# Altium integrated library TI Data Converters Analog to Digital Converter.IntLib: 2198 symbols (part 28 of 164)
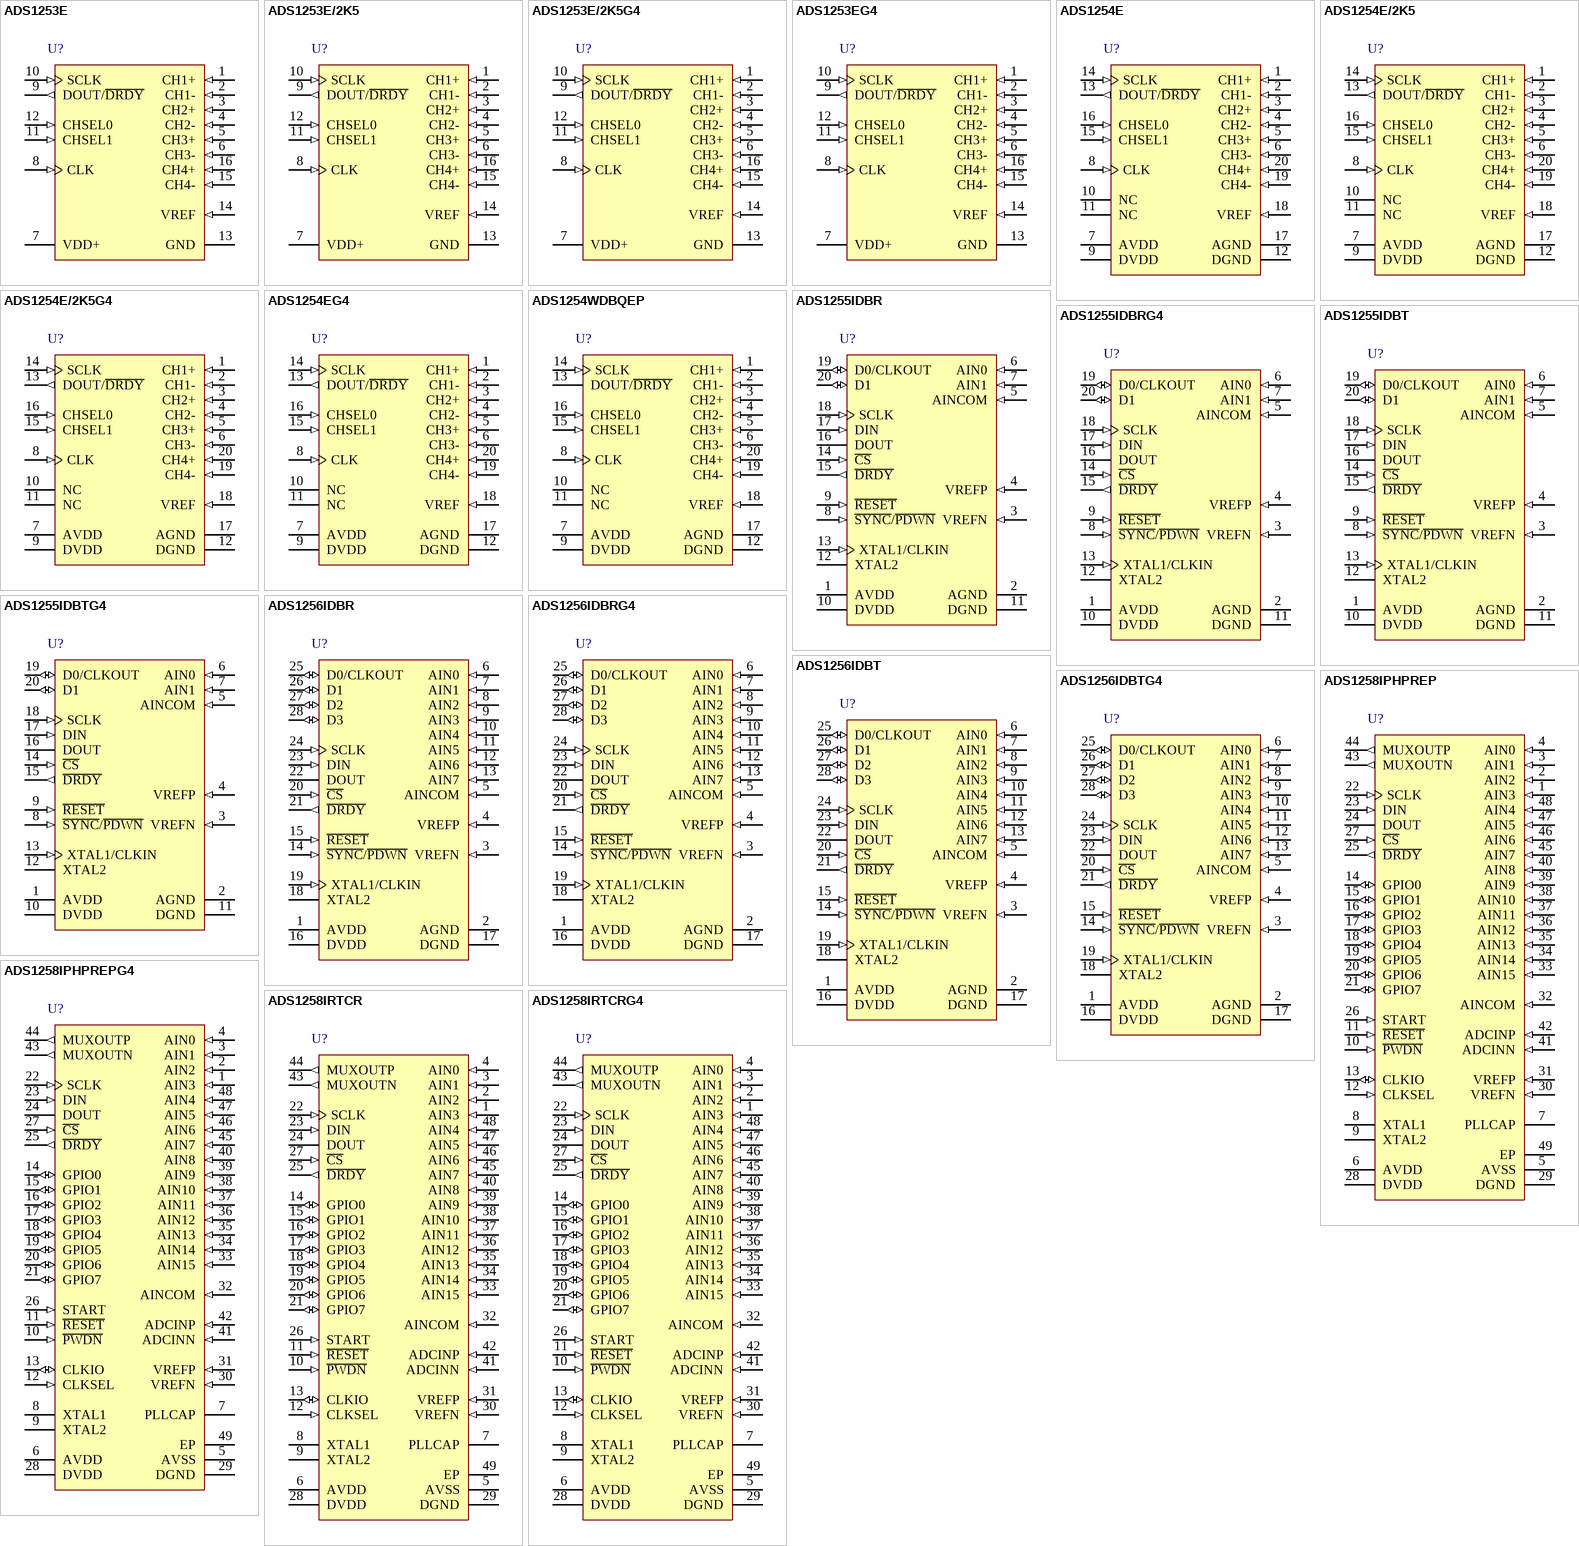
[diagram p153: symbols ADS1253E to ADS1258IRTCRG4]

## ADS1255IDBR
designator U?
24-Bit, 30 kSPS Very Low Noise Delta-Sigma ADC, -40 to 85 degC, 20-pin SOP (DB20), Green (RoHS & no Sb/Br); Manufacturer: Texas Instruments; PartNumber: ADS1255IDBR; # Input Channels: 2; Analog Voltage AV/DD(Max)(V): 5.25; Analog Voltage AV/DD(Min)(V): 4.75; Digital Supply(Max)(V): 3.6; Digital Supply(Min)(V): 1.8; Interface: Serial SPI; Resolution(Bits): 24; Sample Rate (max)(SPS): 30k; SubFamily: Precision ADC (<=10MSPS); DatasheetVersion: SBAS288J; PackageVersion: 4040065/E, 12/2001; PackageReference: DB20; PackageDescription: 20-Pin Plastic Small Outline, Body 5.3 x 7.2 mm, Pitch 0.65 mm; Supplier 1: Digi-Key; Supplier Part Number 1: 296-25894-2-ND; Architecture: Delta-Sigma; Eco-Plan: Green (RoHS & no Sb/Br); Mounting Technology: Surface Mount; Code_JEDEC: MO-150; ComponentLink1Description: Manufacturer URL; ComponentLink1URL: http://www.ti.com/; ComponentLink2Description: Datasheet; ComponentLink2URL: http://www.ti.com/general/docs/lit/getliterature.tsp?genericPartNumber=ADS1255&fileType=pdf; ComponentLink3Description: Package Specification; ComponentLink3URL: http://www.ti.com/lit/ml/msso002e/msso002e.pdf
footprint TI-DB20_N (SOP, 20-Leads, Body 7.2x5.3mm, Pitch 0.65mm, IPC Medium Density)
footprint TI-DB20_L (SOP, 20-Leads, Body 7.2x5.3mm, Pitch 0.65mm, IPC High Density)
footprint TI-DB20_M (SOP, 20-Leads, Body 7.2x5.3mm, Pitch 0.65mm, IPC Low Density)
pins: 1 AVDD (power) "Analog power supply", 2 AGND (power) "Analog ground", 3 VREFN (in) "Negative reference input", 4 VREFP (in) "Positive reference input", 5 AINCOM (in) "Analog input common", 6 AIN0 (in) "Analog input 0", 7 AIN1 (in) "Analog input 1", 8 ~{SYNC}/~{PDWN} (in), 9 ~{RESET} (in) "Reset input", 10 DVDD (power) "Digital power supply", 11 DGND (power) "Digital ground", 12 XTAL2 "Crystal oscillator connection", 13 XTAL1/CLKIN (in), 14 ~{CS} (in) "Chip select", 15 ~{DRDY} (out) "Data ready output", 16 DOUT (hiz) "Serial data output", 17 DIN (in) "Serial data input", 18 SCLK (in) "Serial clock input", 19 D0/CLKOUT (io), 20 D1 (io) "Digital I/O 1"

## ADS1255IDBRG4
designator U?
24-Bit, 30 kSPS Very Low Noise Delta-Sigma ADC, -40 to 85 degC, 20-pin SOP (DB20), Green (RoHS & no Sb/Br); Manufacturer: Texas Instruments; PartNumber: ADS1255IDBRG4; # Input Channels: 2; Analog Voltage AV/DD(Max)(V): 5.25; Analog Voltage AV/DD(Min)(V): 4.75; Digital Supply(Max)(V): 3.6; Digital Supply(Min)(V): 1.8; Interface: Serial SPI; Resolution(Bits): 24; Sample Rate (max)(SPS): 30k; SubFamily: Precision ADC (<=10MSPS); DatasheetVersion: SBAS288J; PackageVersion: 4040065/E, 12/2001; PackageReference: DB20; PackageDescription: 20-Pin Plastic Small Outline, Body 5.3 x 7.2 mm, Pitch 0.65 mm; Supplier 1: Digi-Key; Supplier Part Number 1: ADS1232IPWRG4-ND; Architecture: Delta-Sigma; Eco-Plan: Green (RoHS & no Sb/Br); Mounting Technology: Surface Mount; Code_JEDEC: MO-150; ComponentLink1Description: Manufacturer URL; ComponentLink1URL: http://www.ti.com/; ComponentLink2Description: Datasheet; ComponentLink2URL: http://www.ti.com/general/docs/lit/getliterature.tsp?genericPartNumber=ADS1255&fileType=pdf; ComponentLink3Description: Package Specification; ComponentLink3URL: http://www.ti.com/lit/ml/msso002e/msso002e.pdf
footprint TI-DB20_N (SOP, 20-Leads, Body 7.2x5.3mm, Pitch 0.65mm, IPC Medium Density)
footprint TI-DB20_L (SOP, 20-Leads, Body 7.2x5.3mm, Pitch 0.65mm, IPC High Density)
footprint TI-DB20_M (SOP, 20-Leads, Body 7.2x5.3mm, Pitch 0.65mm, IPC Low Density)
pins: 1 AVDD (power) "Analog power supply", 2 AGND (power) "Analog ground", 3 VREFN (in) "Negative reference input", 4 VREFP (in) "Positive reference input", 5 AINCOM (in) "Analog input common", 6 AIN0 (in) "Analog input 0", 7 AIN1 (in) "Analog input 1", 8 ~{SYNC}/~{PDWN} (in), 9 ~{RESET} (in) "Reset input", 10 DVDD (power) "Digital power supply", 11 DGND (power) "Digital ground", 12 XTAL2 "Crystal oscillator connection", 13 XTAL1/CLKIN (in), 14 ~{CS} (in) "Chip select", 15 ~{DRDY} (out) "Data ready output", 16 DOUT (hiz) "Serial data output", 17 DIN (in) "Serial data input", 18 SCLK (in) "Serial clock input", 19 D0/CLKOUT (io), 20 D1 (io) "Digital I/O 1"

## ADS1255IDBT
designator U?
24-Bit, 30 kSPS Very Low Noise Delta-Sigma ADC, -40 to 85 degC, 20-pin SOP (DB20), Green (RoHS & no Sb/Br); Manufacturer: Texas Instruments; PartNumber: ADS1255IDBT; # Input Channels: 2; Analog Voltage AV/DD(Max)(V): 5.25; Analog Voltage AV/DD(Min)(V): 4.75; Digital Supply(Max)(V): 3.6; Digital Supply(Min)(V): 1.8; Interface: Serial SPI; Resolution(Bits): 24; Sample Rate (max)(SPS): 30k; SubFamily: Precision ADC (<=10MSPS); DatasheetVersion: SBAS288J; PackageVersion: 4040065/E, 12/2001; PackageReference: DB20; PackageDescription: 20-Pin Plastic Small Outline, Body 5.3 x 7.2 mm, Pitch 0.65 mm; Supplier 1: Digi-Key; Supplier Part Number 1: 296-10258-5-ND; Architecture: Delta-Sigma; Eco-Plan: Green (RoHS & no Sb/Br); Mounting Technology: Surface Mount; Code_JEDEC: MO-150; ComponentLink1Description: Manufacturer URL; ComponentLink1URL: http://www.ti.com/; ComponentLink2Description: Datasheet; ComponentLink2URL: http://www.ti.com/general/docs/lit/getliterature.tsp?genericPartNumber=ADS1255&fileType=pdf; ComponentLink3Description: Package Specification; ComponentLink3URL: http://www.ti.com/lit/ml/msso002e/msso002e.pdf
footprint TI-DB20_N (SOP, 20-Leads, Body 7.2x5.3mm, Pitch 0.65mm, IPC Medium Density)
footprint TI-DB20_L (SOP, 20-Leads, Body 7.2x5.3mm, Pitch 0.65mm, IPC High Density)
footprint TI-DB20_M (SOP, 20-Leads, Body 7.2x5.3mm, Pitch 0.65mm, IPC Low Density)
pins: 1 AVDD (power) "Analog power supply", 2 AGND (power) "Analog ground", 3 VREFN (in) "Negative reference input", 4 VREFP (in) "Positive reference input", 5 AINCOM (in) "Analog input common", 6 AIN0 (in) "Analog input 0", 7 AIN1 (in) "Analog input 1", 8 ~{SYNC}/~{PDWN} (in), 9 ~{RESET} (in) "Reset input", 10 DVDD (power) "Digital power supply", 11 DGND (power) "Digital ground", 12 XTAL2 "Crystal oscillator connection", 13 XTAL1/CLKIN (in), 14 ~{CS} (in) "Chip select", 15 ~{DRDY} (out) "Data ready output", 16 DOUT (hiz) "Serial data output", 17 DIN (in) "Serial data input", 18 SCLK (in) "Serial clock input", 19 D0/CLKOUT (io), 20 D1 (io) "Digital I/O 1"

## ADS1255IDBTG4
designator U?
24-Bit, 30 kSPS Very Low Noise Delta-Sigma ADC, -40 to 85 degC, 20-pin SOP (DB20), Green (RoHS & no Sb/Br); Manufacturer: Texas Instruments; PartNumber: ADS1255IDBTG4; # Input Channels: 2; Analog Voltage AV/DD(Max)(V): 5.25; Analog Voltage AV/DD(Min)(V): 4.75; Digital Supply(Max)(V): 3.6; Digital Supply(Min)(V): 1.8; Interface: Serial SPI; Resolution(Bits): 24; Sample Rate (max)(SPS): 30k; SubFamily: Precision ADC (<=10MSPS); DatasheetVersion: SBAS288J; PackageVersion: 4040065/E, 12/2001; PackageReference: DB20; PackageDescription: 20-Pin Plastic Small Outline, Body 5.3 x 7.2 mm, Pitch 0.65 mm; Supplier 1: Digi-Key; Supplier Part Number 1: TLC2578IPWG4-ND; Architecture: Delta-Sigma; Eco-Plan: Green (RoHS & no Sb/Br); Mounting Technology: Surface Mount; Code_JEDEC: MO-150; ComponentLink1Description: Manufacturer URL; ComponentLink1URL: http://www.ti.com/; ComponentLink2Description: Datasheet; ComponentLink2URL: http://www.ti.com/general/docs/lit/getliterature.tsp?genericPartNumber=ADS1255&fileType=pdf; ComponentLink3Description: Package Specification; ComponentLink3URL: http://www.ti.com/lit/ml/msso002e/msso002e.pdf
footprint TI-DB20_N (SOP, 20-Leads, Body 7.2x5.3mm, Pitch 0.65mm, IPC Medium Density)
footprint TI-DB20_L (SOP, 20-Leads, Body 7.2x5.3mm, Pitch 0.65mm, IPC High Density)
footprint TI-DB20_M (SOP, 20-Leads, Body 7.2x5.3mm, Pitch 0.65mm, IPC Low Density)
pins: 1 AVDD (power) "Analog power supply", 2 AGND (power) "Analog ground", 3 VREFN (in) "Negative reference input", 4 VREFP (in) "Positive reference input", 5 AINCOM (in) "Analog input common", 6 AIN0 (in) "Analog input 0", 7 AIN1 (in) "Analog input 1", 8 ~{SYNC}/~{PDWN} (in), 9 ~{RESET} (in) "Reset input", 10 DVDD (power) "Digital power supply", 11 DGND (power) "Digital ground", 12 XTAL2 "Crystal oscillator connection", 13 XTAL1/CLKIN (in), 14 ~{CS} (in) "Chip select", 15 ~{DRDY} (out) "Data ready output", 16 DOUT (hiz) "Serial data output", 17 DIN (in) "Serial data input", 18 SCLK (in) "Serial clock input", 19 D0/CLKOUT (io), 20 D1 (io) "Digital I/O 1"

## ADS1256IDBR
designator U?
24-Bit, 30 kSPS Very Low Noise Delta-Sigma ADC with Multiplexer, -40 to 85 degC, 28-pin SOP (DB28), Green (RoHS & no Sb/Br); Manufacturer: Texas Instruments; PartNumber: ADS1256IDBR; # Input Channels: 8; Analog Voltage AV/DD(Max)(V): 5.25; Analog Voltage AV/DD(Min)(V): 4.75; Digital Supply(Max)(V): 3.6; Digital Supply(Min)(V): 1.8; Interface: Serial SPI; Resolution(Bits): 24; Sample Rate (max)(SPS): 30k; SubFamily: Precision ADC (<=10MSPS); DatasheetVersion: SBAS288J; PackageVersion: 4040065/E, 12/2001; PackageReference: DB28; PackageDescription: 28-Pin Plastic Small Outline, Body 10.2 X 5.3 mm, Pitch 0.65 mm; Supplier 1: Digi-Key; Supplier Part Number 1: TLC2578IPWR-ND; Architecture: Delta-Sigma; Eco-Plan: Green (RoHS & no Sb/Br); Mounting Technology: Surface Mount; Code_JEDEC: MO-150; ComponentLink1Description: Manufacturer URL; ComponentLink1URL: http://www.ti.com/; ComponentLink2Description: Datasheet; ComponentLink2URL: http://www.ti.com/general/docs/lit/getliterature.tsp?genericPartNumber=ADS1256&fileType=pdf; ComponentLink3Description: Package Specification; ComponentLink3URL: http://www.ti.com/lit/ml/msso002e/msso002e.pdf
footprint TI-DB28_N (SOP, 28-Leads, Body 10.2x5.3mm, Pitch 0.65mm, IPC Medium Density)
footprint TI-DB28_L (SOP, 28-Leads, Body 10.2x5.3mm, Pitch 0.65mm, IPC High Density)
footprint TI-DB28_M (SOP, 28-Leads, Body 10.2x5.3mm, Pitch 0.65mm, IPC Low Density)
pins: 1 AVDD (power) "Analog power supply", 2 AGND (power) "Analog ground", 3 VREFN (in) "Negative reference input", 4 VREFP (in) "Positive reference input", 5 AINCOM (in) "Analog input common", 6 AIN0 (in) "Analog input 0", 7 AIN1 (in) "Analog input 1", 8 AIN2 (in) "Analog input 2", 9 AIN3 (in) "Analog input 3", 10 AIN4 (in) "Analog input 4", 11 AIN5 (in) "Analog input 5", 12 AIN6 (in) "Analog input 6", 13 AIN7 (in) "Analog input 7", 14 ~{SYNC}/~{PDWN} (in) "Synchronization / power down input", 15 ~{RESET} (in) "Reset input", 16 DVDD (power) "Digital power supply", 17 DGND (power) "Digital ground", 18 XTAL2 "Crystal oscillator connection", 19 XTAL1/CLKIN (in) "Crystal oscillator connection / external clock input", 20 ~{CS} (in) "Chip select", 21 ~{DRDY} (out) "Data ready output", 22 DOUT (hiz) "Serial data output", 23 DIN (in) "Serial data input", 24 SCLK (in) "Serial clock input", 25 D0/CLKOUT (io) "Digital I/O 0 / clock output", 26 D1 (io) "Digital I/O 1", 27 D2 (io) "Digital I/O 2", 28 D3 (io) "Digital I/O 3"

## ADS1256IDBRG4
designator U?
24-Bit, 30 kSPS Very Low Noise Delta-Sigma ADC with Multiplexer, -40 to 85 degC, 28-pin SOP (DB28), Green (RoHS & no Sb/Br); Manufacturer: Texas Instruments; PartNumber: ADS1256IDBRG4; # Input Channels: 8; Analog Voltage AV/DD(Max)(V): 5.25; Analog Voltage AV/DD(Min)(V): 4.75; Digital Supply(Max)(V): 3.6; Digital Supply(Min)(V): 1.8; Interface: Serial SPI; Resolution(Bits): 24; Sample Rate (max)(SPS): 30k; SubFamily: Precision ADC (<=10MSPS); DatasheetVersion: SBAS288J; PackageVersion: 4040065/E, 12/2001; PackageReference: DB28; PackageDescription: 28-Pin Plastic Small Outline, Body 10.2 X 5.3 mm, Pitch 0.65 mm; Supplier 1: Digi-Key; Supplier Part Number 1: TLC2578IPWRG4-ND; Architecture: Delta-Sigma; Eco-Plan: Green (RoHS & no Sb/Br); Mounting Technology: Surface Mount; Code_JEDEC: MO-150; ComponentLink1Description: Manufacturer URL; ComponentLink1URL: http://www.ti.com/; ComponentLink2Description: Datasheet; ComponentLink2URL: http://www.ti.com/general/docs/lit/getliterature.tsp?genericPartNumber=ADS1256&fileType=pdf; ComponentLink3Description: Package Specification; ComponentLink3URL: http://www.ti.com/lit/ml/msso002e/msso002e.pdf
footprint TI-DB28_N (SOP, 28-Leads, Body 10.2x5.3mm, Pitch 0.65mm, IPC Medium Density)
footprint TI-DB28_L (SOP, 28-Leads, Body 10.2x5.3mm, Pitch 0.65mm, IPC High Density)
footprint TI-DB28_M (SOP, 28-Leads, Body 10.2x5.3mm, Pitch 0.65mm, IPC Low Density)
pins: 1 AVDD (power) "Analog power supply", 2 AGND (power) "Analog ground", 3 VREFN (in) "Negative reference input", 4 VREFP (in) "Positive reference input", 5 AINCOM (in) "Analog input common", 6 AIN0 (in) "Analog input 0", 7 AIN1 (in) "Analog input 1", 8 AIN2 (in) "Analog input 2", 9 AIN3 (in) "Analog input 3", 10 AIN4 (in) "Analog input 4", 11 AIN5 (in) "Analog input 5", 12 AIN6 (in) "Analog input 6", 13 AIN7 (in) "Analog input 7", 14 ~{SYNC}/~{PDWN} (in) "Synchronization / power down input", 15 ~{RESET} (in) "Reset input", 16 DVDD (power) "Digital power supply", 17 DGND (power) "Digital ground", 18 XTAL2 "Crystal oscillator connection", 19 XTAL1/CLKIN (in) "Crystal oscillator connection / external clock input", 20 ~{CS} (in) "Chip select", 21 ~{DRDY} (out) "Data ready output", 22 DOUT (hiz) "Serial data output", 23 DIN (in) "Serial data input", 24 SCLK (in) "Serial clock input", 25 D0/CLKOUT (io) "Digital I/O 0 / clock output", 26 D1 (io) "Digital I/O 1", 27 D2 (io) "Digital I/O 2", 28 D3 (io) "Digital I/O 3"

## ADS1256IDBT
designator U?
24-Bit, 30 kSPS Very Low Noise Delta-Sigma ADC with Multiplexer, -40 to 85 degC, 28-pin SOP (DB28), Green (RoHS & no Sb/Br); Manufacturer: Texas Instruments; PartNumber: ADS1256IDBT; # Input Channels: 8; Analog Voltage AV/DD(Max)(V): 5.25; Analog Voltage AV/DD(Min)(V): 4.75; Digital Supply(Max)(V): 3.6; Digital Supply(Min)(V): 1.8; Interface: Serial SPI; Resolution(Bits): 24; Sample Rate (max)(SPS): 30k; SubFamily: Precision ADC (<=10MSPS); DatasheetVersion: SBAS288J; PackageVersion: 4040065/E, 12/2001; PackageReference: DB28; PackageDescription: 28-Pin Plastic Small Outline, Body 10.2 X 5.3 mm, Pitch 0.65 mm; Supplier 1: Digi-Key; Supplier Part Number 1: 296-10299-5-ND; Architecture: Delta-Sigma; Eco-Plan: Green (RoHS & no Sb/Br); Mounting Technology: Surface Mount; Code_JEDEC: MO-150; ComponentLink1Description: Manufacturer URL; ComponentLink1URL: http://www.ti.com/; ComponentLink2Description: Datasheet; ComponentLink2URL: http://www.ti.com/general/docs/lit/getliterature.tsp?genericPartNumber=ADS1256&fileType=pdf; ComponentLink3Description: Package Specification; ComponentLink3URL: http://www.ti.com/lit/ml/msso002e/msso002e.pdf
footprint TI-DB28_N (SOP, 28-Leads, Body 10.2x5.3mm, Pitch 0.65mm, IPC Medium Density)
footprint TI-DB28_L (SOP, 28-Leads, Body 10.2x5.3mm, Pitch 0.65mm, IPC High Density)
footprint TI-DB28_M (SOP, 28-Leads, Body 10.2x5.3mm, Pitch 0.65mm, IPC Low Density)
pins: 1 AVDD (power) "Analog power supply", 2 AGND (power) "Analog ground", 3 VREFN (in) "Negative reference input", 4 VREFP (in) "Positive reference input", 5 AINCOM (in) "Analog input common", 6 AIN0 (in) "Analog input 0", 7 AIN1 (in) "Analog input 1", 8 AIN2 (in) "Analog input 2", 9 AIN3 (in) "Analog input 3", 10 AIN4 (in) "Analog input 4", 11 AIN5 (in) "Analog input 5", 12 AIN6 (in) "Analog input 6", 13 AIN7 (in) "Analog input 7", 14 ~{SYNC}/~{PDWN} (in) "Synchronization / power down input", 15 ~{RESET} (in) "Reset input", 16 DVDD (power) "Digital power supply", 17 DGND (power) "Digital ground", 18 XTAL2 "Crystal oscillator connection", 19 XTAL1/CLKIN (in) "Crystal oscillator connection / external clock input", 20 ~{CS} (in) "Chip select", 21 ~{DRDY} (out) "Data ready output", 22 DOUT (hiz) "Serial data output", 23 DIN (in) "Serial data input", 24 SCLK (in) "Serial clock input", 25 D0/CLKOUT (io) "Digital I/O 0 / clock output", 26 D1 (io) "Digital I/O 1", 27 D2 (io) "Digital I/O 2", 28 D3 (io) "Digital I/O 3"

## ADS1256IDBTG4
designator U?
24-Bit, 30 kSPS Very Low Noise Delta-Sigma ADC with Multiplexer, -40 to 85 degC, 28-pin SOP (DB28), Green (RoHS & no Sb/Br); Manufacturer: Texas Instruments; PartNumber: ADS1256IDBTG4; # Input Channels: 8; Analog Voltage AV/DD(Max)(V): 5.25; Analog Voltage AV/DD(Min)(V): 4.75; Digital Supply(Max)(V): 3.6; Digital Supply(Min)(V): 1.8; Interface: Serial SPI; Resolution(Bits): 24; Sample Rate (max)(SPS): 30k; SubFamily: Precision ADC (<=10MSPS); DatasheetVersion: SBAS288J; PackageVersion: 4040065/E, 12/2001; PackageReference: DB28; PackageDescription: 28-Pin Plastic Small Outline, Body 10.2 X 5.3 mm, Pitch 0.65 mm; Supplier 1: Digi-Key; Supplier Part Number 1: TLC3578IPWG4-ND; Architecture: Delta-Sigma; Eco-Plan: Green (RoHS & no Sb/Br); Mounting Technology: Surface Mount; Code_JEDEC: MO-150; ComponentLink1Description: Manufacturer URL; ComponentLink1URL: http://www.ti.com/; ComponentLink2Description: Datasheet; ComponentLink2URL: http://www.ti.com/general/docs/lit/getliterature.tsp?genericPartNumber=ADS1256&fileType=pdf; ComponentLink3Description: Package Specification; ComponentLink3URL: http://www.ti.com/lit/ml/msso002e/msso002e.pdf
footprint TI-DB28_N (SOP, 28-Leads, Body 10.2x5.3mm, Pitch 0.65mm, IPC Medium Density)
footprint TI-DB28_L (SOP, 28-Leads, Body 10.2x5.3mm, Pitch 0.65mm, IPC High Density)
footprint TI-DB28_M (SOP, 28-Leads, Body 10.2x5.3mm, Pitch 0.65mm, IPC Low Density)
pins: 1 AVDD (power) "Analog power supply", 2 AGND (power) "Analog ground", 3 VREFN (in) "Negative reference input", 4 VREFP (in) "Positive reference input", 5 AINCOM (in) "Analog input common", 6 AIN0 (in) "Analog input 0", 7 AIN1 (in) "Analog input 1", 8 AIN2 (in) "Analog input 2", 9 AIN3 (in) "Analog input 3", 10 AIN4 (in) "Analog input 4", 11 AIN5 (in) "Analog input 5", 12 AIN6 (in) "Analog input 6", 13 AIN7 (in) "Analog input 7", 14 ~{SYNC}/~{PDWN} (in) "Synchronization / power down input", 15 ~{RESET} (in) "Reset input", 16 DVDD (power) "Digital power supply", 17 DGND (power) "Digital ground", 18 XTAL2 "Crystal oscillator connection", 19 XTAL1/CLKIN (in) "Crystal oscillator connection / external clock input", 20 ~{CS} (in) "Chip select", 21 ~{DRDY} (out) "Data ready output", 22 DOUT (hiz) "Serial data output", 23 DIN (in) "Serial data input", 24 SCLK (in) "Serial clock input", 25 D0/CLKOUT (io) "Digital I/O 0 / clock output", 26 D1 (io) "Digital I/O 1", 27 D2 (io) "Digital I/O 2", 28 D3 (io) "Digital I/O 3"

## ADS1258IPHPREP
designator U?
Enhanced Product 16-Channel, 24-Bit ADC, -40 to 105 degC, 48-pin QFP (PHP48), Green (RoHS & no Sb/Br); Manufacturer: Texas Instruments; PartNumber: ADS1258IPHPREP; # Input Channels: 16; Analog Voltage AV/DD(Max)(V): 5.25; Analog Voltage AV/DD(Min)(V): 4.75; Architecture: Delta-Sigma; Digital Supply(Min)(V): 2.7; Resolution(Bits): 24; Sample Rate (max)(SPS): 125k; SubFamily: Precision ADC (<=10MSPS); DatasheetVersion: SBAS445D; PackageVersion: 4146927/B, 08/2003; PackageReference: PHP48-4050X4050TP; PackageDescription: 48-Pin PowerPAD(TM) Plastic Quad Flatpack, Body 7 x 7 mm, Pitch 0.5 mm; Supplier 1: Digi-Key; Supplier Part Number 1: TLC3578IPWR-ND; Digital Supply(Max)(V): 5.25; Eco-Plan: Green (RoHS & no Sb/Br); Mounting Technology: Surface Mount; Code_JEDEC: MS-026; ComponentLink1Description: Manufacturer URL; ComponentLink1URL: http://www.ti.com/; ComponentLink2Description: Datasheet; ComponentLink2URL: http://www.ti.com/general/docs/lit/getliterature.tsp?genericPartNumber=ADS1258-EP&fileType=pdf; ComponentLink3Description: Package Specification; ComponentLink3URL: http://www.ti.com/litv/pdf/mpqf051a
footprint TI-PHP48-4050X4050TP_N (QFP, 48-Leads, Body 7x7mm, Pitch 0.5mm, Thermal Pad 4.6x4.6mm, IPC Medium Density)
footprint TI-PHP48-4050X4050TP_L (QFP, 48-Leads, Body 7x7mm, Pitch 0.5mm, Thermal Pad 4.6x4.6mm, IPC High Density)
footprint TI-PHP48-4050X4050TP_M (QFP, 48-Leads, Body 7x7mm, Pitch 0.5mm, Thermal Pad 4.6x4.6mm, IPC Low Density)
pins: 1 AIN3 (in) "Analog Input 3: Single-Ended Channel 3, Differential Channel 1 (-)", 2 AIN2 (in) "Analog Input 2: Single-Ended Channel 2, Differential Channel 1 (+)", 3 AIN1 (in) "Analog Input 1: Single-Ended Channel 1, Differential Channel 0 (-)", 4 AIN0 (in) "Analog Input 0: Single-Ended Channel 0, Differential Channel 0 (+)", 5 AVSS (power) "Negative Analog Power Supply: 0V for unipolar operation, -2.5 V for bipolar operation. (Internally connected to exposed thermal pad of QFN package.)", 6 AVDD (power) "Positive Analog Power Supply: 5 V for unipolar operation, 2.5 V for bipolar operation.", 7 PLLCAP "PLL Bypass Capacitor: Connect 22nF capacitor to AVSS when using crystal oscillator.", 8 XTAL1 "32.768-kHz Crystal Oscillator Input 1; see the Chrystal Oscillator section.", 9 XTAL2 "32.768-kHz Crystal Oscillator Input 2; see the Chrystal Oscillator section.", 10 ~{PWDN} (in) "Power-Down Input: Hold low for minimum of two fCLK cycles to engage low-power mode.", 11 ~{RESET} (in) "Reset Input: Hold low for minimum of two fCLK cycles to reset the device.", 12 CLKSEL (in) "Clock Select Input: Low = Activates Crystal Oscillator, fCLK output on CLKIO. High = Disables Crystal Oscillator, apply fCLK to CLKIO.", 13 CLKIO (io) "System Clock Input/Output (See CLKSEL pin.)", 14 GPIO0 (io) "General-Purpose Digital Input/Output 0", 15 GPIO1 (io) "General-Purpose Digital Input/Output 1", 16 GPIO2 (io) "General-Purpose Digital Input/Output 2", 17 GPIO3 (io) "General-Purpose Digital Input/Output 3", 18 GPIO4 (io) "General-Purpose Digital Input/Output 4", 19 GPIO5 (io) "General-Purpose Digital Input/Output 5", 20 GPIO6 (io) "General-Purpose Digital Input/Output 6", 21 GPIO7 (io) "General-Purpose Digital Input/Output 7", 22 SCLK (in) "SPI Interface Clock Input: Data clocked in on rising edge, clocked out on falling edge.", 23 DIN (in) "SPI Interface Data Input: Data is input to the device.", 24 DOUT (hiz) "SPI Interface Data Output: Data is output from the device.", 25 ~{DRDY} (out) "Data Ready Output: Active low.", 26 START (in) "Start Conversion Input: Active high.", 27 ~{CS} (in) "SPI Interface Chip Select Input: Active low.", 28 DVDD (power) "Digital Power Supply: 2.7 V to 5.25 V", 29 DGND (power) "Digital Ground", 30 VREFN (in) "Reference Input Negative", 31 VREFP (in) "Reference Input Positive", 32 AINCOM (in) "Analog Input Common: Common input pin to all single-ended inputs.", 33 AIN15 (in) "Analog Input 15: Single-Ended Channel 15, Differential Channel 7 (-)", 34 AIN14 (in) "Analog Input 14: Single-Ended Channel 14, Differential Channel 7 (+)", 35 AIN13 (in) "Analog Input 13: Single-Ended Channel 13, Differential Channel 6 (-)", 36 AIN12 (in) "Analog Input 12: Single-Ended Channel 12, Differential Channel 6 (+)", 37 AIN11 (in) "Analog Input 11: Single-Ended Channel 11, Differential Channel 5 (-)", 38 AIN10 (in) "Analog Input 10: Single-Ended Channel 10, Differential Channel 5 (+)", 39 AIN9 (in) "Analog Input 9: Single-Ended Channel 9, Differential Channel 4 (-)", 40 AIN8 (in) "Analog Input 8: Single-Ended Channel 8, Differential Channel 4 (+)", 41 ADCINN (in) "ADC Differential Input (-)", 42 ADCINP (in) "ADC Differential Input (+)", 43 MUXOUTN (out) "Multiplexer Differential Output (-)", 44 MUXOUTP (out) "Multiplexer Differential Output (+)", 45 AIN7 (in) "Analog Input 7: Single-Ended Channel 7, Differential Channel 3 (-)", 46 AIN6 (in) "Analog Input 6 : Single-Ended Channel 6, Differential Channel 3 (+)", 47 AIN5 (in) "Analog Input 5: Single-Ended Channel 5, Differential Channel 2 (-)", 48 AIN4 (in) "Analog Input 4: Single-Ended Channel 4, Differential Channel 2 (+)", 49 EP (power)

## ADS1258IPHPREPG4
designator U?
Enhanced Product 16-Channel, 24-Bit ADC, -40 to 105 degC, 48-pin QFP (PHP48), Green (RoHS & no Sb/Br); Manufacturer: Texas Instruments; PartNumber: ADS1258IPHPREPG4; # Input Channels: 16; Analog Voltage AV/DD(Max)(V): 5.25; Analog Voltage AV/DD(Min)(V): 4.75; Architecture: Delta-Sigma; Digital Supply(Min)(V): 2.7; Resolution(Bits): 24; Sample Rate (max)(SPS): 125k; SubFamily: Precision ADC (<=10MSPS); DatasheetVersion: SBAS445D; PackageVersion: 4146927/B, 08/2003; PackageReference: PHP48-4050X4050TP; PackageDescription: 48-Pin PowerPAD(TM) Plastic Quad Flatpack, Body 7 x 7 mm, Pitch 0.5 mm; Supplier 1: Digi-Key; Supplier Part Number 1: TLC3578IPWRG4-ND; Digital Supply(Max)(V): 5.25; Eco-Plan: Green (RoHS & no Sb/Br); Mounting Technology: Surface Mount; Code_JEDEC: MS-026; ComponentLink1Description: Manufacturer URL; ComponentLink1URL: http://www.ti.com/; ComponentLink2Description: Datasheet; ComponentLink2URL: http://www.ti.com/general/docs/lit/getliterature.tsp?genericPartNumber=ADS1258-EP&fileType=pdf; ComponentLink3Description: Package Specification; ComponentLink3URL: http://www.ti.com/litv/pdf/mpqf051a
footprint TI-PHP48-4050X4050TP_N (QFP, 48-Leads, Body 7x7mm, Pitch 0.5mm, Thermal Pad 4.6x4.6mm, IPC Medium Density)
footprint TI-PHP48-4050X4050TP_L (QFP, 48-Leads, Body 7x7mm, Pitch 0.5mm, Thermal Pad 4.6x4.6mm, IPC High Density)
footprint TI-PHP48-4050X4050TP_M (QFP, 48-Leads, Body 7x7mm, Pitch 0.5mm, Thermal Pad 4.6x4.6mm, IPC Low Density)
pins: 1 AIN3 (in) "Analog Input 3: Single-Ended Channel 3, Differential Channel 1 (-)", 2 AIN2 (in) "Analog Input 2: Single-Ended Channel 2, Differential Channel 1 (+)", 3 AIN1 (in) "Analog Input 1: Single-Ended Channel 1, Differential Channel 0 (-)", 4 AIN0 (in) "Analog Input 0: Single-Ended Channel 0, Differential Channel 0 (+)", 5 AVSS (power) "Negative Analog Power Supply: 0V for unipolar operation, -2.5 V for bipolar operation. (Internally connected to exposed thermal pad of QFN package.)", 6 AVDD (power) "Positive Analog Power Supply: 5 V for unipolar operation, 2.5 V for bipolar operation.", 7 PLLCAP "PLL Bypass Capacitor: Connect 22nF capacitor to AVSS when using crystal oscillator.", 8 XTAL1 "32.768-kHz Crystal Oscillator Input 1; see the Chrystal Oscillator section.", 9 XTAL2 "32.768-kHz Crystal Oscillator Input 2; see the Chrystal Oscillator section.", 10 ~{PWDN} (in) "Power-Down Input: Hold low for minimum of two fCLK cycles to engage low-power mode.", 11 ~{RESET} (in) "Reset Input: Hold low for minimum of two fCLK cycles to reset the device.", 12 CLKSEL (in) "Clock Select Input: Low = Activates Crystal Oscillator, fCLK output on CLKIO. High = Disables Crystal Oscillator, apply fCLK to CLKIO.", 13 CLKIO (io) "System Clock Input/Output (See CLKSEL pin.)", 14 GPIO0 (io) "General-Purpose Digital Input/Output 0", 15 GPIO1 (io) "General-Purpose Digital Input/Output 1", 16 GPIO2 (io) "General-Purpose Digital Input/Output 2", 17 GPIO3 (io) "General-Purpose Digital Input/Output 3", 18 GPIO4 (io) "General-Purpose Digital Input/Output 4", 19 GPIO5 (io) "General-Purpose Digital Input/Output 5", 20 GPIO6 (io) "General-Purpose Digital Input/Output 6", 21 GPIO7 (io) "General-Purpose Digital Input/Output 7", 22 SCLK (in) "SPI Interface Clock Input: Data clocked in on rising edge, clocked out on falling edge.", 23 DIN (in) "SPI Interface Data Input: Data is input to the device.", 24 DOUT (hiz) "SPI Interface Data Output: Data is output from the device.", 25 ~{DRDY} (out) "Data Ready Output: Active low.", 26 START (in) "Start Conversion Input: Active high.", 27 ~{CS} (in) "SPI Interface Chip Select Input: Active low.", 28 DVDD (power) "Digital Power Supply: 2.7 V to 5.25 V", 29 DGND (power) "Digital Ground", 30 VREFN (in) "Reference Input Negative", 31 VREFP (in) "Reference Input Positive", 32 AINCOM (in) "Analog Input Common: Common input pin to all single-ended inputs.", 33 AIN15 (in) "Analog Input 15: Single-Ended Channel 15, Differential Channel 7 (-)", 34 AIN14 (in) "Analog Input 14: Single-Ended Channel 14, Differential Channel 7 (+)", 35 AIN13 (in) "Analog Input 13: Single-Ended Channel 13, Differential Channel 6 (-)", 36 AIN12 (in) "Analog Input 12: Single-Ended Channel 12, Differential Channel 6 (+)", 37 AIN11 (in) "Analog Input 11: Single-Ended Channel 11, Differential Channel 5 (-)", 38 AIN10 (in) "Analog Input 10: Single-Ended Channel 10, Differential Channel 5 (+)", 39 AIN9 (in) "Analog Input 9: Single-Ended Channel 9, Differential Channel 4 (-)", 40 AIN8 (in) "Analog Input 8: Single-Ended Channel 8, Differential Channel 4 (+)", 41 ADCINN (in) "ADC Differential Input (-)", 42 ADCINP (in) "ADC Differential Input (+)", 43 MUXOUTN (out) "Multiplexer Differential Output (-)", 44 MUXOUTP (out) "Multiplexer Differential Output (+)", 45 AIN7 (in) "Analog Input 7: Single-Ended Channel 7, Differential Channel 3 (-)", 46 AIN6 (in) "Analog Input 6 : Single-Ended Channel 6, Differential Channel 3 (+)", 47 AIN5 (in) "Analog Input 5: Single-Ended Channel 5, Differential Channel 2 (-)", 48 AIN4 (in) "Analog Input 4: Single-Ended Channel 4, Differential Channel 2 (+)", 49 EP (power)

## ADS1258IRTCR
designator U?
24-Bit, Fast Channel Cycling Delta-Sigma ADC, -40 to 105 degC, 48-pin QFN (RTC48), Green (RoHS & no Sb/Br); Manufacturer: Texas Instruments; PartNumber: ADS1258IRTCR; # Input Channels: 16; Analog Voltage AV/DD(Max)(V): 5.25; Analog Voltage AV/DD(Min)(V): 4.75; Digital Supply(Min)(V): 2.7; ENOB(Bits): 21.6; Interface: Serial SPI; Resolution(Bits): 24; Sample Rate (max)(SPS): 125k; SubFamily: Precision ADC (<=10MSPS); DatasheetVersion: SBAS297G; PackageVersion: 4205143/D, 05/2011; PackageReference: RTC48-5100X5100TP; PackageDescription: 48-Pin Plastic Quad Flatpack No-Lead, Body 7 x 7 mm, Pitch 0.5 mm; Supplier 1: Digi-Key; Supplier Part Number 1: 296-34357-5-ND; Architecture: Delta-Sigma; Digital Supply(Max)(V): 5.25; Eco-Plan: Green (RoHS & no Sb/Br); Mounting Technology: Surface Mount; ComponentLink1Description: Manufacturer URL; ComponentLink1URL: http://www.ti.com/; ComponentLink2Description: Datasheet; ComponentLink2URL: http://www.ti.com/general/docs/lit/getliterature.tsp?genericPartNumber=ADS1258&fileType=pdf; ComponentLink3Description: Package Specification; ComponentLink3URL: http://www.ti.com/litv/pdf/mpqf140c
footprint TI-RTC48-5100X5100TP_V (QFN, 48-Leads, Body 7x7mm, Pitch 0.5mm, Thermal Pad 5.1x5.1mm, TI Recommended)
pins: 1 AIN3 (in) "Analog Input 3: Single-Ended Channel 3, Differential Channel 1 (-)", 2 AIN2 (in) "Analog Input 2: Single-Ended Channel 2, Differential Channel 1 (+)", 3 AIN1 (in) "Analog Input 1: Single-Ended Channel 1, Differential Channel 0 (-)", 4 AIN0 (in) "Analog Input 0: Single-Ended Channel 0, Differential Channel 0 (+)", 5 AVSS (power) "Negative Analog Power Supply: 0V for unipolar operation, -2.5V for bipolar operation. (Internally connected to exposed thermal pad of QFN package.)", 6 AVDD (power) "Positive Analog Power Supply: +5V for unipolar operation, +2.5V for bipolar operation.", 7 PLLCAP "PLL Bypass Capacitor: Connect 22nF capacitor to AVSS when using crystal oscillator.", 8 XTAL1 "32.768kHz Crystal Oscillator Input 1; see Crystal Oscillator section.", 9 XTAL2 "32.768kHz Crystal Oscillator Input 2; see Crystal Oscillator section.", 10 ~{PWDN} (in) "Power-Down Input: Hold low for minimum of two fCLK cycles to engage low-power mode.", 11 ~{RESET} (in) "Reset Input: Hold low for minimum of two fCLK cycles to reset the device.", 12 CLKSEL (in) "Clock Select Input: Low = Activates Crystal Oscillator, fCLK output on CLKIO. High = Disables Crystal Oscillator, apply fCLK to CLKIO.", 13 CLKIO (io) "System Clock Input/Output (See CLKSEL pin.)", 14 GPIO0 (io) "General-Purpose Digital Input/Output 0", 15 GPIO1 (io) "General-Purpose Digital Input/Output 1", 16 GPIO2 (io) "General-Purpose Digital Input/Output 2", 17 GPIO3 (io) "General-Purpose Digital Input/Output 3", 18 GPIO4 (io) "General-Purpose Digital Input/Output 4", 19 GPIO5 (io) "General-Purpose Digital Input/Output 5", 20 GPIO6 (io) "General-Purpose Digital Input/Output 6", 21 GPIO7 (io) "General-Purpose Digital Input/Output 7", 22 SCLK (in) "SPI Interface Clock Input: Data clocked in on rising edge, clocked out on falling edge.", 23 DIN (in) "SPI Interface Data Input: Data is input to the device.", 24 DOUT (hiz) "SPI Interface Data Output: Data is output from the device.", 25 ~{DRDY} (out) "Data Ready Output: Active low.", 26 START (in) "Start Conversion Input: Active high.", 27 ~{CS} (in) "SPI Interface Chip Select Input: Active low.", 28 DVDD (power) "Digital Power Supply: 2.7V to 5.25V", 29 DGND (power) "Digital Ground", 30 VREFN (in) "Reference Input Negative", 31 VREFP (in) "Reference Input Positive", 32 AINCOM (in) "Analog Input Common: Common input pin to all single-ended inputs.", 33 AIN15 (in) "Analog Input 15: Single-Ended Channel 15, Differential Channel 7 (-)", 34 AIN14 (in) "Analog Input 14: Single-Ended Channel 14, Differential Channel 7 (+)", 35 AIN13 (in) "Analog Input 13: Single-Ended Channel 13, Differential Channel 6 (-)", 36 AIN12 (in) "Analog Input 12: Single-Ended Channel 12, Differential Channel 6 (+)", 37 AIN11 (in) "Analog Input 11: Single-Ended Channel 11, Differential Channel 5 (-)", 38 AIN10 (in) "Analog Input 10: Single-Ended Channel 10, Differential Channel 5 (+)", 39 AIN9 (in) "Analog Input 9: Single-Ended Channel 9, Differential Channel 4 (-)", 40 AIN8 (in) "Analog Input 8: Single-Ended Channel 8, Differential Channel 4 (+)", 41 ADCINN (in) "ADC Differential Input (-)", 42 ADCINP (in) "ADC Differential Input (+)", 43 MUXOUTN (out) "Multiplexer Differential Output (-)", 44 MUXOUTP (out) "Multiplexer Differential Output (+)", 45 AIN7 (in) "Analog Input 7: Single-Ended Channel 7, Differential Channel 3 (-)", 46 AIN6 (in) "Analog Input 6 : Single-Ended Channel 6, Differential Channel 3 (+)", 47 AIN5 (in) "Analog Input 5: Single-Ended Channel 5, Differential Channel 2 (-)", 48 AIN4 (in) "Analog Input 4: Single-Ended Channel 4, Differential Channel 2 (+)", 49 EP (power) "Exposed Pad"

## ADS1258IRTCRG4
designator U?
24-Bit, Fast Channel Cycling Delta-Sigma ADC, -40 to 105 degC, 48-pin QFN (RTC48), Green (RoHS & no Sb/Br); Manufacturer: Texas Instruments; PartNumber: ADS1258IRTCRG4; # Input Channels: 16; Analog Voltage AV/DD(Max)(V): 5.25; Analog Voltage AV/DD(Min)(V): 4.75; Digital Supply(Min)(V): 2.7; ENOB(Bits): 21.6; Interface: Serial SPI; Resolution(Bits): 24; Sample Rate (max)(SPS): 125k; SubFamily: Precision ADC (<=10MSPS); DatasheetVersion: SBAS297G; PackageVersion: 4205143/D, 05/2011; PackageReference: RTC48-5100X5100TP; PackageDescription: 48-Pin Plastic Quad Flatpack No-Lead, Body 7 x 7 mm, Pitch 0.5 mm; Supplier 1: Digi-Key; Supplier Part Number 1: TLC3548CPWG4-ND; Architecture: Delta-Sigma; Digital Supply(Max)(V): 5.25; Eco-Plan: Green (RoHS & no Sb/Br); Mounting Technology: Surface Mount; ComponentLink1Description: Manufacturer URL; ComponentLink1URL: http://www.ti.com/; ComponentLink2Description: Datasheet; ComponentLink2URL: http://www.ti.com/general/docs/lit/getliterature.tsp?genericPartNumber=ADS1258&fileType=pdf; ComponentLink3Description: Package Specification; ComponentLink3URL: http://www.ti.com/litv/pdf/mpqf140c
footprint TI-RTC48-5100X5100TP_V (QFN, 48-Leads, Body 7x7mm, Pitch 0.5mm, Thermal Pad 5.1x5.1mm, TI Recommended)
pins: 1 AIN3 (in) "Analog Input 3: Single-Ended Channel 3, Differential Channel 1 (-)", 2 AIN2 (in) "Analog Input 2: Single-Ended Channel 2, Differential Channel 1 (+)", 3 AIN1 (in) "Analog Input 1: Single-Ended Channel 1, Differential Channel 0 (-)", 4 AIN0 (in) "Analog Input 0: Single-Ended Channel 0, Differential Channel 0 (+)", 5 AVSS (power) "Negative Analog Power Supply: 0V for unipolar operation, -2.5V for bipolar operation. (Internally connected to exposed thermal pad of QFN package.)", 6 AVDD (power) "Positive Analog Power Supply: +5V for unipolar operation, +2.5V for bipolar operation.", 7 PLLCAP "PLL Bypass Capacitor: Connect 22nF capacitor to AVSS when using crystal oscillator.", 8 XTAL1 "32.768kHz Crystal Oscillator Input 1; see Crystal Oscillator section.", 9 XTAL2 "32.768kHz Crystal Oscillator Input 2; see Crystal Oscillator section.", 10 ~{PWDN} (in) "Power-Down Input: Hold low for minimum of two fCLK cycles to engage low-power mode.", 11 ~{RESET} (in) "Reset Input: Hold low for minimum of two fCLK cycles to reset the device.", 12 CLKSEL (in) "Clock Select Input: Low = Activates Crystal Oscillator, fCLK output on CLKIO. High = Disables Crystal Oscillator, apply fCLK to CLKIO.", 13 CLKIO (io) "System Clock Input/Output (See CLKSEL pin.)", 14 GPIO0 (io) "General-Purpose Digital Input/Output 0", 15 GPIO1 (io) "General-Purpose Digital Input/Output 1", 16 GPIO2 (io) "General-Purpose Digital Input/Output 2", 17 GPIO3 (io) "General-Purpose Digital Input/Output 3", 18 GPIO4 (io) "General-Purpose Digital Input/Output 4", 19 GPIO5 (io) "General-Purpose Digital Input/Output 5", 20 GPIO6 (io) "General-Purpose Digital Input/Output 6", 21 GPIO7 (io) "General-Purpose Digital Input/Output 7", 22 SCLK (in) "SPI Interface Clock Input: Data clocked in on rising edge, clocked out on falling edge.", 23 DIN (in) "SPI Interface Data Input: Data is input to the device.", 24 DOUT (hiz) "SPI Interface Data Output: Data is output from the device.", 25 ~{DRDY} (out) "Data Ready Output: Active low.", 26 START (in) "Start Conversion Input: Active high.", 27 ~{CS} (in) "SPI Interface Chip Select Input: Active low.", 28 DVDD (power) "Digital Power Supply: 2.7V to 5.25V", 29 DGND (power) "Digital Ground", 30 VREFN (in) "Reference Input Negative", 31 VREFP (in) "Reference Input Positive", 32 AINCOM (in) "Analog Input Common: Common input pin to all single-ended inputs.", 33 AIN15 (in) "Analog Input 15: Single-Ended Channel 15, Differential Channel 7 (-)", 34 AIN14 (in) "Analog Input 14: Single-Ended Channel 14, Differential Channel 7 (+)", 35 AIN13 (in) "Analog Input 13: Single-Ended Channel 13, Differential Channel 6 (-)", 36 AIN12 (in) "Analog Input 12: Single-Ended Channel 12, Differential Channel 6 (+)", 37 AIN11 (in) "Analog Input 11: Single-Ended Channel 11, Differential Channel 5 (-)", 38 AIN10 (in) "Analog Input 10: Single-Ended Channel 10, Differential Channel 5 (+)", 39 AIN9 (in) "Analog Input 9: Single-Ended Channel 9, Differential Channel 4 (-)", 40 AIN8 (in) "Analog Input 8: Single-Ended Channel 8, Differential Channel 4 (+)", 41 ADCINN (in) "ADC Differential Input (-)", 42 ADCINP (in) "ADC Differential Input (+)", 43 MUXOUTN (out) "Multiplexer Differential Output (-)", 44 MUXOUTP (out) "Multiplexer Differential Output (+)", 45 AIN7 (in) "Analog Input 7: Single-Ended Channel 7, Differential Channel 3 (-)", 46 AIN6 (in) "Analog Input 6 : Single-Ended Channel 6, Differential Channel 3 (+)", 47 AIN5 (in) "Analog Input 5: Single-Ended Channel 5, Differential Channel 2 (-)", 48 AIN4 (in) "Analog Input 4: Single-Ended Channel 4, Differential Channel 2 (+)", 49 EP (power) "Exposed Pad"

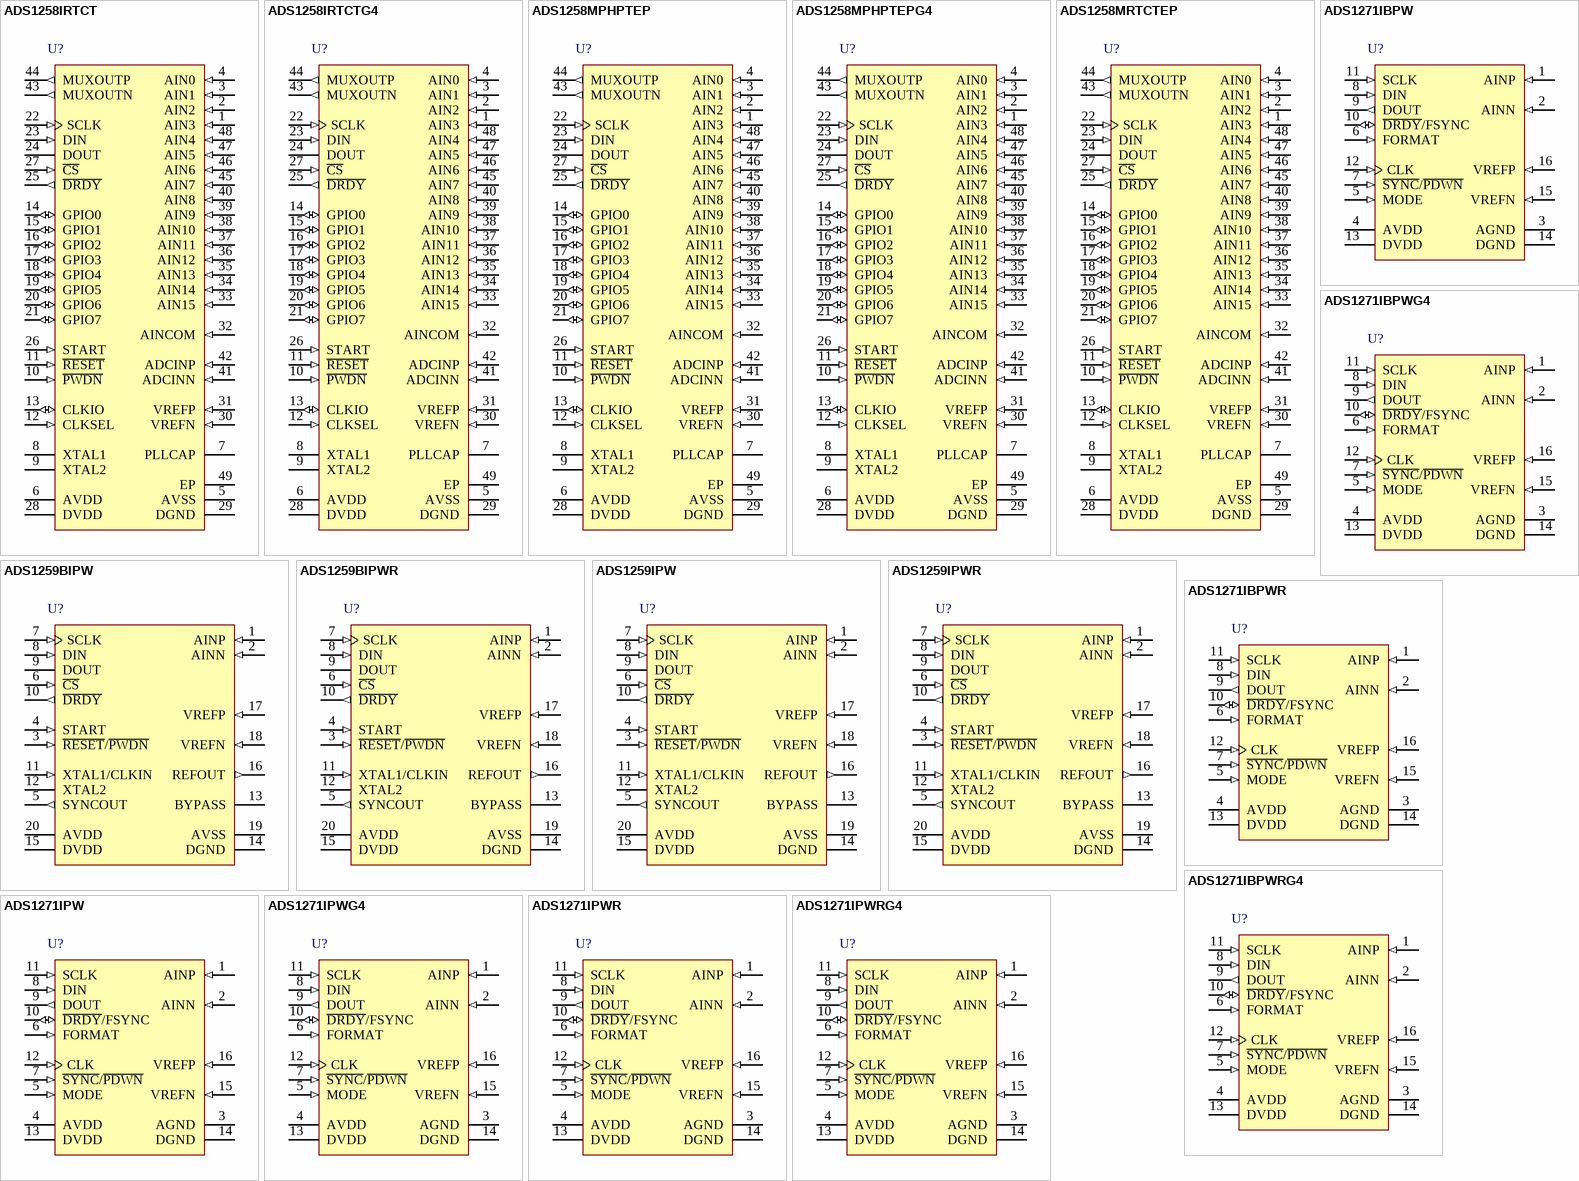
[diagram p23: symbols ADS1258IRTCT to ADS1271IPWRG4]

## ADS1258IRTCT
designator U?
24-Bit, Fast Channel Cycling Delta-Sigma ADC, -40 to 105 degC, 48-pin QFN (RTC48), Green (RoHS & no Sb/Br); Manufacturer: Texas Instruments; PartNumber: ADS1258IRTCT; # Input Channels: 16; Analog Voltage AV/DD(Max)(V): 5.25; Analog Voltage AV/DD(Min)(V): 4.75; Digital Supply(Min)(V): 2.7; ENOB(Bits): 21.6; Interface: Serial SPI; Resolution(Bits): 24; Sample Rate (max)(SPS): 125k; SubFamily: Precision ADC (<=10MSPS); DatasheetVersion: SBAS297G; PackageVersion: 4205143/D, 05/2011; PackageReference: RTC48-5100X5100TP; PackageDescription: 48-Pin Plastic Quad Flatpack No-Lead, Body 7 x 7 mm, Pitch 0.5 mm; Supplier 1: Digi-Key; Supplier Part Number 1: TLC3548CPWR-ND; Architecture: Delta-Sigma; Digital Supply(Max)(V): 5.25; Eco-Plan: Green (RoHS & no Sb/Br); Mounting Technology: Surface Mount; ComponentLink1Description: Manufacturer URL; ComponentLink1URL: http://www.ti.com/; ComponentLink2Description: Datasheet; ComponentLink2URL: http://www.ti.com/general/docs/lit/getliterature.tsp?genericPartNumber=ADS1258&fileType=pdf; ComponentLink3Description: Package Specification; ComponentLink3URL: http://www.ti.com/litv/pdf/mpqf140c
footprint TI-RTC48-5100X5100TP_V (QFN, 48-Leads, Body 7x7mm, Pitch 0.5mm, Thermal Pad 5.1x5.1mm, TI Recommended)
pins: 1 AIN3 (in) "Analog Input 3: Single-Ended Channel 3, Differential Channel 1 (-)", 2 AIN2 (in) "Analog Input 2: Single-Ended Channel 2, Differential Channel 1 (+)", 3 AIN1 (in) "Analog Input 1: Single-Ended Channel 1, Differential Channel 0 (-)", 4 AIN0 (in) "Analog Input 0: Single-Ended Channel 0, Differential Channel 0 (+)", 5 AVSS (power) "Negative Analog Power Supply: 0V for unipolar operation, -2.5V for bipolar operation. (Internally connected to exposed thermal pad of QFN package.)", 6 AVDD (power) "Positive Analog Power Supply: +5V for unipolar operation, +2.5V for bipolar operation.", 7 PLLCAP "PLL Bypass Capacitor: Connect 22nF capacitor to AVSS when using crystal oscillator.", 8 XTAL1 "32.768kHz Crystal Oscillator Input 1; see Crystal Oscillator section.", 9 XTAL2 "32.768kHz Crystal Oscillator Input 2; see Crystal Oscillator section.", 10 ~{PWDN} (in) "Power-Down Input: Hold low for minimum of two fCLK cycles to engage low-power mode.", 11 ~{RESET} (in) "Reset Input: Hold low for minimum of two fCLK cycles to reset the device.", 12 CLKSEL (in) "Clock Select Input: Low = Activates Crystal Oscillator, fCLK output on CLKIO. High = Disables Crystal Oscillator, apply fCLK to CLKIO.", 13 CLKIO (io) "System Clock Input/Output (See CLKSEL pin.)", 14 GPIO0 (io) "General-Purpose Digital Input/Output 0", 15 GPIO1 (io) "General-Purpose Digital Input/Output 1", 16 GPIO2 (io) "General-Purpose Digital Input/Output 2", 17 GPIO3 (io) "General-Purpose Digital Input/Output 3", 18 GPIO4 (io) "General-Purpose Digital Input/Output 4", 19 GPIO5 (io) "General-Purpose Digital Input/Output 5", 20 GPIO6 (io) "General-Purpose Digital Input/Output 6", 21 GPIO7 (io) "General-Purpose Digital Input/Output 7", 22 SCLK (in) "SPI Interface Clock Input: Data clocked in on rising edge, clocked out on falling edge.", 23 DIN (in) "SPI Interface Data Input: Data is input to the device.", 24 DOUT (hiz) "SPI Interface Data Output: Data is output from the device.", 25 ~{DRDY} (out) "Data Ready Output: Active low.", 26 START (in) "Start Conversion Input: Active high.", 27 ~{CS} (in) "SPI Interface Chip Select Input: Active low.", 28 DVDD (power) "Digital Power Supply: 2.7V to 5.25V", 29 DGND (power) "Digital Ground", 30 VREFN (in) "Reference Input Negative", 31 VREFP (in) "Reference Input Positive", 32 AINCOM (in) "Analog Input Common: Common input pin to all single-ended inputs.", 33 AIN15 (in) "Analog Input 15: Single-Ended Channel 15, Differential Channel 7 (-)", 34 AIN14 (in) "Analog Input 14: Single-Ended Channel 14, Differential Channel 7 (+)", 35 AIN13 (in) "Analog Input 13: Single-Ended Channel 13, Differential Channel 6 (-)", 36 AIN12 (in) "Analog Input 12: Single-Ended Channel 12, Differential Channel 6 (+)", 37 AIN11 (in) "Analog Input 11: Single-Ended Channel 11, Differential Channel 5 (-)", 38 AIN10 (in) "Analog Input 10: Single-Ended Channel 10, Differential Channel 5 (+)", 39 AIN9 (in) "Analog Input 9: Single-Ended Channel 9, Differential Channel 4 (-)", 40 AIN8 (in) "Analog Input 8: Single-Ended Channel 8, Differential Channel 4 (+)", 41 ADCINN (in) "ADC Differential Input (-)", 42 ADCINP (in) "ADC Differential Input (+)", 43 MUXOUTN (out) "Multiplexer Differential Output (-)", 44 MUXOUTP (out) "Multiplexer Differential Output (+)", 45 AIN7 (in) "Analog Input 7: Single-Ended Channel 7, Differential Channel 3 (-)", 46 AIN6 (in) "Analog Input 6 : Single-Ended Channel 6, Differential Channel 3 (+)", 47 AIN5 (in) "Analog Input 5: Single-Ended Channel 5, Differential Channel 2 (-)", 48 AIN4 (in) "Analog Input 4: Single-Ended Channel 4, Differential Channel 2 (+)", 49 EP (power) "Exposed Pad"

## ADS1258IRTCTG4
designator U?
24-Bit, Fast Channel Cycling Delta-Sigma ADC, -40 to 105 degC, 48-pin QFN (RTC48), Green (RoHS & no Sb/Br); Manufacturer: Texas Instruments; PartNumber: ADS1258IRTCTG4; # Input Channels: 16; Analog Voltage AV/DD(Max)(V): 5.25; Analog Voltage AV/DD(Min)(V): 4.75; Digital Supply(Min)(V): 2.7; ENOB(Bits): 21.6; Interface: Serial SPI; Resolution(Bits): 24; Sample Rate (max)(SPS): 125k; SubFamily: Precision ADC (<=10MSPS); DatasheetVersion: SBAS297G; PackageVersion: 4205143/D, 05/2011; PackageReference: RTC48-5100X5100TP; PackageDescription: 48-Pin Plastic Quad Flatpack No-Lead, Body 7 x 7 mm, Pitch 0.5 mm; Supplier 1: Digi-Key; Supplier Part Number 1: TLC3548CPWRG4-ND; Architecture: Delta-Sigma; Digital Supply(Max)(V): 5.25; Eco-Plan: Green (RoHS & no Sb/Br); Mounting Technology: Surface Mount; ComponentLink1Description: Manufacturer URL; ComponentLink1URL: http://www.ti.com/; ComponentLink2Description: Datasheet; ComponentLink2URL: http://www.ti.com/general/docs/lit/getliterature.tsp?genericPartNumber=ADS1258&fileType=pdf; ComponentLink3Description: Package Specification; ComponentLink3URL: http://www.ti.com/litv/pdf/mpqf140c
footprint TI-RTC48-5100X5100TP_V (QFN, 48-Leads, Body 7x7mm, Pitch 0.5mm, Thermal Pad 5.1x5.1mm, TI Recommended)
pins: 1 AIN3 (in) "Analog Input 3: Single-Ended Channel 3, Differential Channel 1 (-)", 2 AIN2 (in) "Analog Input 2: Single-Ended Channel 2, Differential Channel 1 (+)", 3 AIN1 (in) "Analog Input 1: Single-Ended Channel 1, Differential Channel 0 (-)", 4 AIN0 (in) "Analog Input 0: Single-Ended Channel 0, Differential Channel 0 (+)", 5 AVSS (power) "Negative Analog Power Supply: 0V for unipolar operation, -2.5V for bipolar operation. (Internally connected to exposed thermal pad of QFN package.)", 6 AVDD (power) "Positive Analog Power Supply: +5V for unipolar operation, +2.5V for bipolar operation.", 7 PLLCAP "PLL Bypass Capacitor: Connect 22nF capacitor to AVSS when using crystal oscillator.", 8 XTAL1 "32.768kHz Crystal Oscillator Input 1; see Crystal Oscillator section.", 9 XTAL2 "32.768kHz Crystal Oscillator Input 2; see Crystal Oscillator section.", 10 ~{PWDN} (in) "Power-Down Input: Hold low for minimum of two fCLK cycles to engage low-power mode.", 11 ~{RESET} (in) "Reset Input: Hold low for minimum of two fCLK cycles to reset the device.", 12 CLKSEL (in) "Clock Select Input: Low = Activates Crystal Oscillator, fCLK output on CLKIO. High = Disables Crystal Oscillator, apply fCLK to CLKIO.", 13 CLKIO (io) "System Clock Input/Output (See CLKSEL pin.)", 14 GPIO0 (io) "General-Purpose Digital Input/Output 0", 15 GPIO1 (io) "General-Purpose Digital Input/Output 1", 16 GPIO2 (io) "General-Purpose Digital Input/Output 2", 17 GPIO3 (io) "General-Purpose Digital Input/Output 3", 18 GPIO4 (io) "General-Purpose Digital Input/Output 4", 19 GPIO5 (io) "General-Purpose Digital Input/Output 5", 20 GPIO6 (io) "General-Purpose Digital Input/Output 6", 21 GPIO7 (io) "General-Purpose Digital Input/Output 7", 22 SCLK (in) "SPI Interface Clock Input: Data clocked in on rising edge, clocked out on falling edge.", 23 DIN (in) "SPI Interface Data Input: Data is input to the device.", 24 DOUT (hiz) "SPI Interface Data Output: Data is output from the device.", 25 ~{DRDY} (out) "Data Ready Output: Active low.", 26 START (in) "Start Conversion Input: Active high.", 27 ~{CS} (in) "SPI Interface Chip Select Input: Active low.", 28 DVDD (power) "Digital Power Supply: 2.7V to 5.25V", 29 DGND (power) "Digital Ground", 30 VREFN (in) "Reference Input Negative", 31 VREFP (in) "Reference Input Positive", 32 AINCOM (in) "Analog Input Common: Common input pin to all single-ended inputs.", 33 AIN15 (in) "Analog Input 15: Single-Ended Channel 15, Differential Channel 7 (-)", 34 AIN14 (in) "Analog Input 14: Single-Ended Channel 14, Differential Channel 7 (+)", 35 AIN13 (in) "Analog Input 13: Single-Ended Channel 13, Differential Channel 6 (-)", 36 AIN12 (in) "Analog Input 12: Single-Ended Channel 12, Differential Channel 6 (+)", 37 AIN11 (in) "Analog Input 11: Single-Ended Channel 11, Differential Channel 5 (-)", 38 AIN10 (in) "Analog Input 10: Single-Ended Channel 10, Differential Channel 5 (+)", 39 AIN9 (in) "Analog Input 9: Single-Ended Channel 9, Differential Channel 4 (-)", 40 AIN8 (in) "Analog Input 8: Single-Ended Channel 8, Differential Channel 4 (+)", 41 ADCINN (in) "ADC Differential Input (-)", 42 ADCINP (in) "ADC Differential Input (+)", 43 MUXOUTN (out) "Multiplexer Differential Output (-)", 44 MUXOUTP (out) "Multiplexer Differential Output (+)", 45 AIN7 (in) "Analog Input 7: Single-Ended Channel 7, Differential Channel 3 (-)", 46 AIN6 (in) "Analog Input 6 : Single-Ended Channel 6, Differential Channel 3 (+)", 47 AIN5 (in) "Analog Input 5: Single-Ended Channel 5, Differential Channel 2 (-)", 48 AIN4 (in) "Analog Input 4: Single-Ended Channel 4, Differential Channel 2 (+)", 49 EP (power) "Exposed Pad"